# Altium schematic symbol library CIRCLE_OUTLINE.SchLib: 1 symbol
Pins are listed as number, name and electrical type; pins without a type are passive.

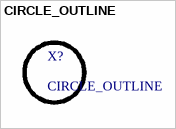
[diagram p0: symbol CIRCLE_OUTLINE]

## CIRCLE_OUTLINE
designator X?
Outline circle test